# Altium footprint library JP.PcbLib: 182 footprints (part 9 of 12)
Each footprint in its own frame and in the unit in brackets; x right, y up, seen from the top. Pads: shape width x height; smd on the part's side, far side on the other; paste and mask are expansions set on the pad; w line width, h text height; cw(c..) or ccw(c..) is an arc to the next point about the centre after c.
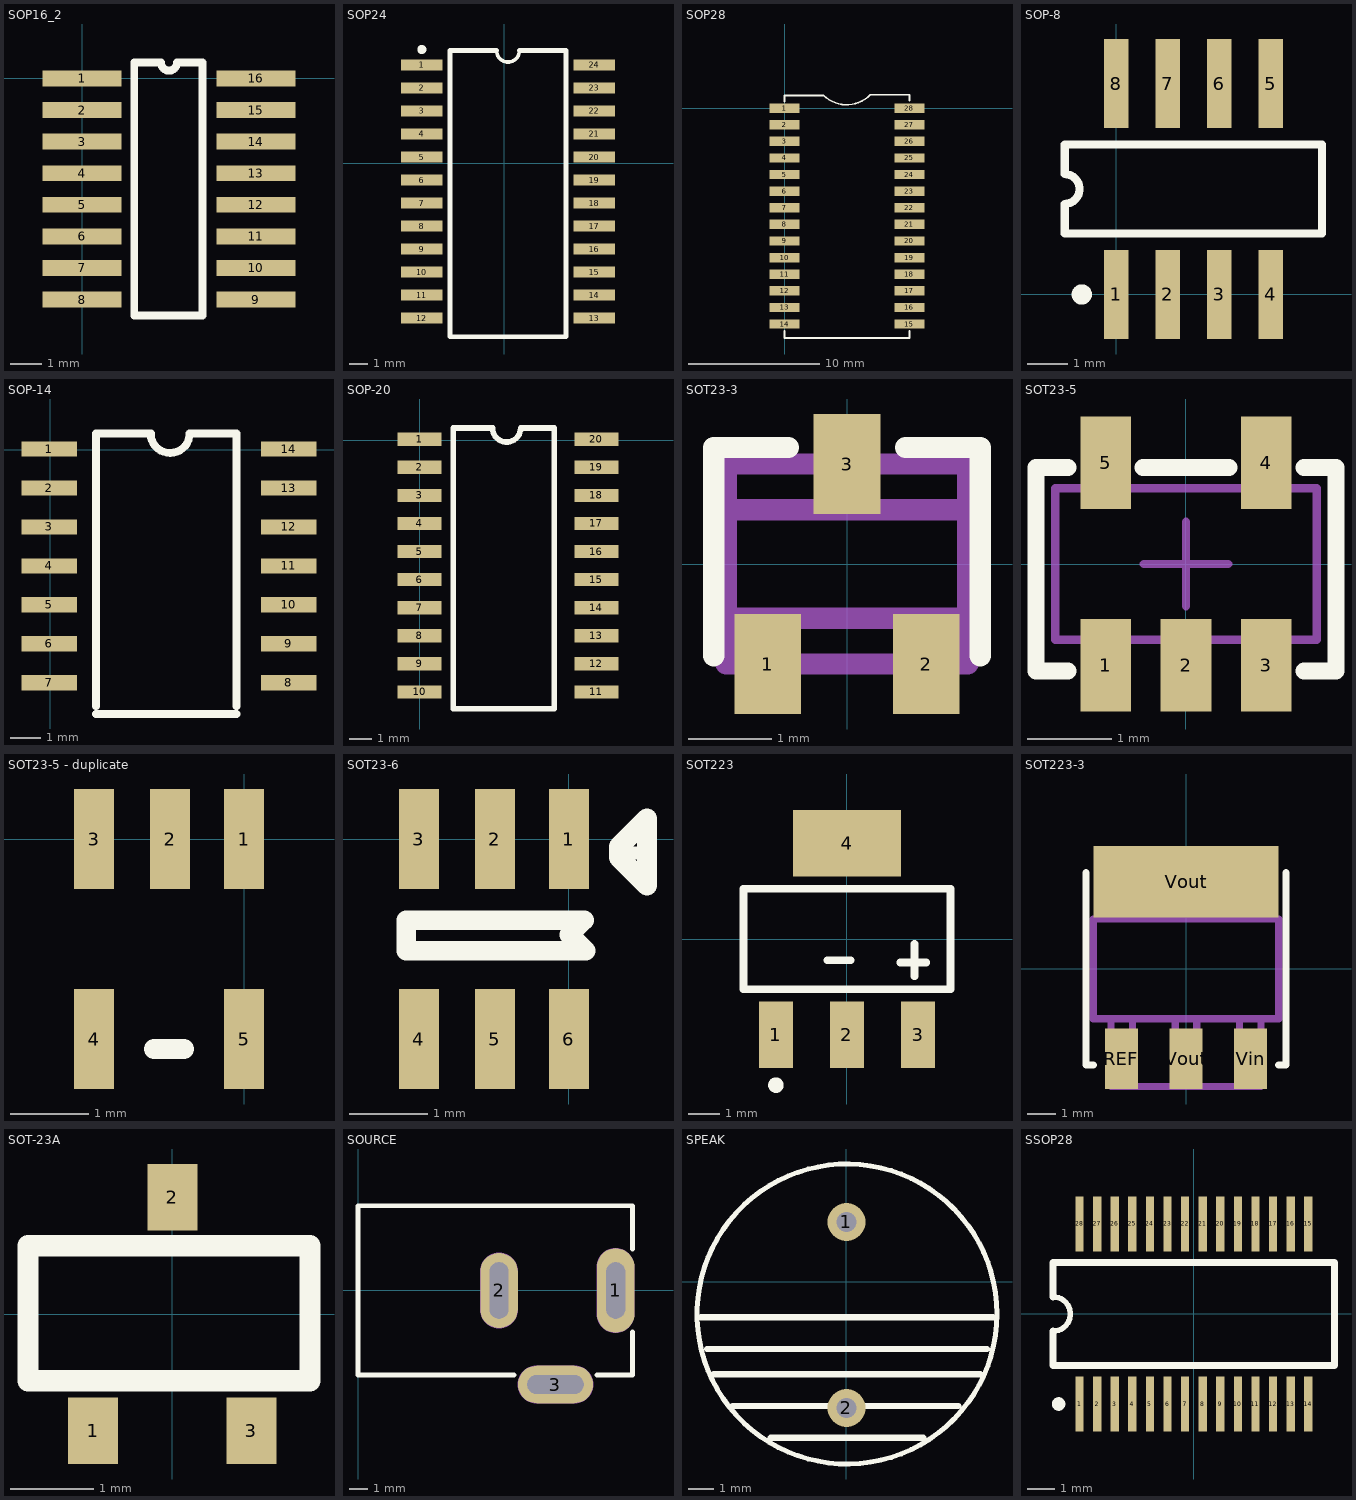
[diagram p8: the footprints below, top view; thin cyan lines are the x and y axes]

## SOP16_2 [mm]
pads (16):
  rect 2.5x0.5 smd: 1(0,0) 2(0,-1) 3(0,-2) 4(0,-3) 5(0,-4) 6(0,-5) 7(0,-6) 8(0,-7) 9(5.5,-7) 10(5.5,-6) 11(5.5,-5) 12(5.5,-4) 13(5.5,-3) 14(5.5,-2) 15(5.5,-1) 16(5.5,0)
Top Overlay:
  lines w0.25: 1.651,-7.5 1.651,0.5 2.5,0.5 ccw(c2.75,0.5) 3,0.5 3.81,0.5 3.81,-7.5 1.651,-7.5
3D body: height 1, standoff 0, extent 1.65,-7.501 3.811,0.501

## SOP24 [mm]
pads (24):
  rect 2.3x0.6 smd: 1(-4.545,5.414) 2(-4.545,4.144) 3(-4.545,2.874) 4(-4.545,1.604) 5(-4.545,0.334) 6(-4.545,-0.936) 7(-4.545,-2.206) 8(-4.545,-3.476) 9(-4.545,-4.746) 10(-4.545,-6.016) 11(-4.545,-7.286) 12(-4.545,-8.556) 13(4.955,-8.556) 14(4.955,-7.286) 15(4.955,-6.016) 16(4.955,-4.746) 17(4.955,-3.476) 18(4.955,-2.206) 19(4.955,-0.936) 20(4.955,0.334) 21(4.955,1.604) 22(4.955,2.874) 23(4.955,4.144) 24(4.955,5.414)
Top Overlay:
  circle w0.25: c-4.545,6.264 r0.125
  lines w0.2: -0.43,6.209 ccw(c0.205,6.209) 0.84,6.209
  lines w0.254: -0.43,6.209 -2.995,6.209 -2.995,-9.58 3.405,-9.58 3.405,6.209 0.84,6.209
3D body: height 1, standoff 0, extent -2.996,-9.581 3.406,6.21

## SOP28 [mil]
pads (28):
  rect 90x28 smd: 1(0,0) 2(0,-50) 3(0,-100) 4(0,-150) 5(0,-200) 6(0,-250) 7(0,-300) 8(0,-350) 9(0,-400) 10(0,-450) 11(0,-500) 12(0,-550) 13(0,-600) 14(0,-650) 15(375.94,-650) 16(375.94,-600) 17(375.94,-550) 18(375.94,-500) 19(375.94,-450) 20(375.94,-400) 21(375.94,-350) 22(375.94,-300) 23(375.94,-250) 24(375.94,-200) 25(375.94,-150) 26(375.94,-100) 27(375.94,-50) 28(375.94,0)
Top Overlay:
  lines w5: 0,-670 0,-692 376,-692 376,-670 ; 0,20 0,38 118,38 ccw(c187,109) 258,40 376,40 376,22
3D body: height 39.37, standoff 0, extent -49,-694.5 424.94,42.5

## SOP-8 [mm]
pads (8):
  rect 0.6x2.2 smd: 1(0,0) 2(1.27,0) 3(2.54,0) 4(3.81,0) 5(3.81,5.2) 6(2.54,5.2) 7(1.27,5.2) 8(0,5.2)
Top Overlay:
  circle w0.25: c-0.85,0 r0.125
  lines w0.2: -1.27,1.5 5.08,1.5 5.08,3.7 -1.27,3.7 -1.27,2.967 cw(c-1.27,2.6) -1.27,2.233 -1.27,1.5

## SOP-14 [mm]
pads (14):
  rect 1.8x0.5 smd: 1(-0.025,0.025) 2(-0.025,-1.245) 3(-0.025,-2.515) 4(-0.025,-3.785) 5(-0.025,-5.055) 6(-0.025,-6.325) 7(-0.025,-7.595) 8(7.775,-7.595) 9(7.775,-6.325) 10(7.775,-5.055) 11(7.775,-3.785) 12(7.775,-2.515) 13(7.775,-1.245) 14(7.775,0.025)
Top Overlay:
  lines w0.254: 1.499,-8.611 6.071,-8.611 ; 1.499,-8.357 1.499,0.533 3.023,0.533 ; 2.43,0.53 3.29,0.53 ; 3.277,0.523 ccw(c3.912,0.533) 4.547,0.533 6.071,0.533 6.071,-8.357

## SOP-20 [mm]
pads (20):
  rect 2x0.6 smd: 1(0,0.051) 2(0,-1.219) 3(0,-2.489) 4(0,-3.759) 5(0,-5.029) 6(0,-6.299) 7(0,-7.569) 8(0,-8.839) 9(0,-10.109) 10(0,-11.379) 11(8,-11.379) 12(8,-10.109) 13(8,-8.839) 14(8,-7.569) 15(8,-6.299) 16(8,-5.029) 17(8,-3.759) 18(8,-2.489) 19(8,-1.219) 20(8,0.051)
Top Overlay:
  lines w0.254: 1.524,-12.141 1.524,0.559 3.302,0.559 ccw(c3.937,0.559) 4.572,0.559 6.096,0.559 6.096,-12.141 1.524,-12.141

## SOT23-3 [mm]
pads (3):
  rect 0.8x1.2 smd: 1(-0.95,-1.2) 2(0.95,-1.2) 3(0,1.2)
Top Overlay:
  lines w0.254: -1.6,-1.1 -1.6,1.4 -0.7,1.4 ; 0.7,1.4 1.6,1.4 1.6,-1.1
Mechanical 1:
  lines w0.254: -1.45,-0.65 1.45,-0.65 ; -1.45,0.65 1.45,0.65 ; -1.15,-1.2 -1.15,-0.65 ; -0.75,-1.2 -0.75,-0.65 ; -0.2,0.65 -0.2,1.2 ; 0.2,0.65 0.2,1.2 ; 0.75,-1.2 0.75,-0.65 ; 1.15,-1.2 1.15,-0.65 ; -1.45,-1.2 -1.45,1.2 1.45,1.2 1.45,-1.2 -1.45,-1.2
3D body: height 1, standoff 0, extent -1.727,-1.227 1.727,1.527

## SOT23-5 [mm]
height 2
pads (5):
  rect 0.6x1.1 smd: 1(-0.95,-1.2) 2(0,-1.2) 3(0.95,-1.2) 4(0.95,1.2) 5(-0.95,1.2)
Top Overlay:
  lines w0.2: -1.397,-1.27 -1.778,-1.27 -1.778,1.143 -1.397,1.143 ; -0.508,1.143 0.508,1.143 ; 1.397,-1.27 1.778,-1.27 1.778,1.143 1.397,1.143
Mechanical 13:
  lines w0.1: -1.55,-0.9 -1.55,0.9 1.55,0.9 1.55,-0.9 -1.55,-0.9
Mechanical 15:
  lines w0.1: -0.5,0 0.5,0 ; 0,-0.5 0,0.5
3D body: height 1.45, standoff 0, extent -1.55,-0.9 1.55,0.9

## SOT23-5 - duplicate [mil]
height 82.68
pads (5):
  rect 20x50 smd: 1(0,0) 2(-37,0) 3(-75,0) 4(-75,-100) 5(0,-100)
Top Overlay:
  lines w10: -45,-105 -30,-105

## SOT23-6 [mil]
height 82.68
pads (6):
  rect 20x50 smd: 1(0,0) 2(-37,0) 3(-75,0) 4(-75,-100) 5(-36.94,-100) 6(0,-100)
Top Overlay:
  rectangle: 25.14,-10.14 39.14,-3.68
  lines w9.84: -81.24,-55.92 8.44,-55.92 0.36,-47.85 7.63,-40.57 -81.24,-40.57 -81.24,-55.92
  lines w10: 25.14,-9.34 25.14,-3.68 39.14,10.32 39.14,-23.34 25.14,-9.34

## SOT223 [mm]
pads (4):
  rect 1.1x2.15 smd: 1(-2.3,-3.1) 2(0,-3.1) 3(2.3,-3.1)
  rect 3.5x2.15 smd: 4(0,3.1)
Top Overlay:
  circle w0.25: c-2.3,-4.725 r0.125
  lines w0.25: -0.627,-0.683 0.123,-0.683 ; 1.723,-0.763 2.563,-0.763 ; 2.183,-1.203 2.183,-0.163
  lines w0.254: -3.35,-1.625 -3.35,1.625 3.35,1.625 3.35,-1.625 -3.35,-1.625
3D body: height 1, standoff 0, extent -3.349,-1.624 3.349,1.624

## SOT223-3 [mil] "3-Lead SOT-223"
pads (4):
  rect 46x85 smd: REF(-90.55,-125.98) Vin(90.55,-125.98) Vout(0,-125.98)
  rect 260x100 smd: Vout(0,122.05)
Top Overlay:
  lines w10: -140,135 -140,-135 -130,-135 ; 130,-135 140,-135 140,135
Mechanical 1:
  lines w10: -105,-165 105,-165 ; -105,-100 -75,-100 ; -105,-70 -105,-135 -75,-135 -75,-70 ; -60,70 -60,135 60,135 60,70 ; -60,100 60,100 ; -60,165 60,165 ; -15,-100 15,-100 ; -15,-70 -15,-135 15,-135 15,-70 ; 75,-100 105,-100 ; 75,-70 75,-135 105,-135 105,-70 ; -130,-70 130,-70 130,70 -130,70 -130,-70

## SOT-23A [mm]
pads (3):
  rect 0.6x0.8 smd: 1(-0.95,-1.4) 2(0,1.4) 3(0.95,-1.4)
Top Overlay:
  lines w0.254: -1.73,-0.8 1.65,-0.8 1.65,0.82 -1.73,0.82 -1.73,-0.8
3D body: height 1, standoff 0, extent -1.857,-0.927 1.777,0.947

## SOURCE [mm] "DC Power Jack, 2.5mm, KLD Series, PCB Mount"
height 1.75
pads (3):
  oval 2x4.5 hole 1 slot 3 at 90 deg: 1(13.7,0)
  oval 2x4 hole 1 slot 3 at 90 deg: 2(7.5,0)
  oval 4x2 hole 1 slot 3 at 0 deg: 3(10.5,-5)
Top Overlay:
  lines w0.254: 8.3,-4.5 0,-4.5 0,4.5 14.6,4.5 14.6,2.2 ; 12.7,-4.5 14.6,-4.5 14.6,-2.2
Mechanical 1:
  lines w1: 7.5,-1 7.5,1 ; 9.5,-5 11.5,-5 ; 13.7,-1.25 13.7,1.25
Mechanical 2:
  lines w2.016: 7.5,-1 7.5,1 ; 9.5,-5 11.5,-5 ; 13.7,-1.25 13.7,1.25
3D body: height 6, standoff 0, extent -0.127,-4.627 14.727,4.627

## SPEAK [mil]
pads (2):
  round 60 hole 31.5: 1(0,94.49) 2(0,-198.43)
Top Overlay:
  circle w7.87: c0.84,-50.42 r236.22
  lines w9.84: -229.16,-55.43 230.84,-55.43 ; -219.16,-105.43 220.84,-105.43 ; -209.16,-145.43 210.84,-145.43 ; -179.16,-195.43 175.84,-195.43 ; -119.16,-245.43 120.84,-245.43

## SSOP28 [mm]
pads (28):
  rect 0.305x2.05 smd: 1(-4.225,-3.325) 2(-3.575,-3.325) 3(-2.925,-3.325) 4(-2.275,-3.325) 5(-1.625,-3.325) 6(-0.975,-3.325) 7(-0.325,-3.325) 8(0.325,-3.325) 9(0.975,-3.325) 10(1.625,-3.325) 11(2.275,-3.325) 12(2.925,-3.325) 13(3.575,-3.325) 14(4.225,-3.325) 15(4.225,3.325) 16(3.575,3.325) 17(2.925,3.325) 18(2.275,3.325) 19(1.625,3.325) 20(0.975,3.325) 21(0.325,3.325) 22(-0.325,3.325) 23(-0.975,3.325) 24(-1.625,3.325) 25(-2.275,3.325) 26(-2.925,3.325) 27(-3.575,3.325) 28(-4.225,3.325)
Top Overlay:
  circle w0.25: c-5,-3.325 r0.125
  lines w0.2: -5.2,-0.633 ccw(c-5.2,0) -5.2,0.633
  lines w0.254: -5.2,-0.633 -5.2,-1.9 5.2,-1.9 5.2,1.9 -5.2,1.9 -5.2,0.633
3D body: height 1, standoff 0, extent -5.201,-1.901 5.2,1.901